# EAGLE library part SN74LVC1G123 (library texas-instruments)
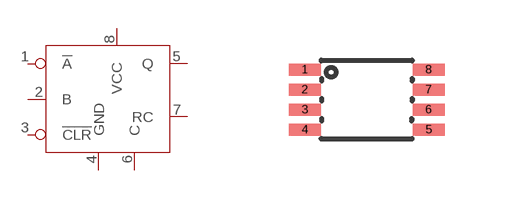
[diagram p31: symbol with the pads of VFSOP-8; footprint VFSOP-8]

Designator prefix U

## SN74LVC1G123 (DIGIKEY: 296-18578-1-ND; P1I: o)  [VFSOP-8]
1  !A
2  B
3  !CLR
4  GND
5  Q
6  C
7  RC
8  VCC

## Footprint VFSOP-8 (pad centres in mm)
smd 0.8 x 0.3: 1 -1.55,0.75; 2 -1.55,0.25; 3 -1.55,-0.25; 4 -1.55,-0.75; 5 1.55,-0.75; 6 1.55,-0.25; 7 1.55,0.25; 8 1.55,0.75